# Altium schematic symbol library 687 1xx 145 22.SchLib: 22 symbols
Pins are listed as number, name and electrical type; pins without a type are passive.

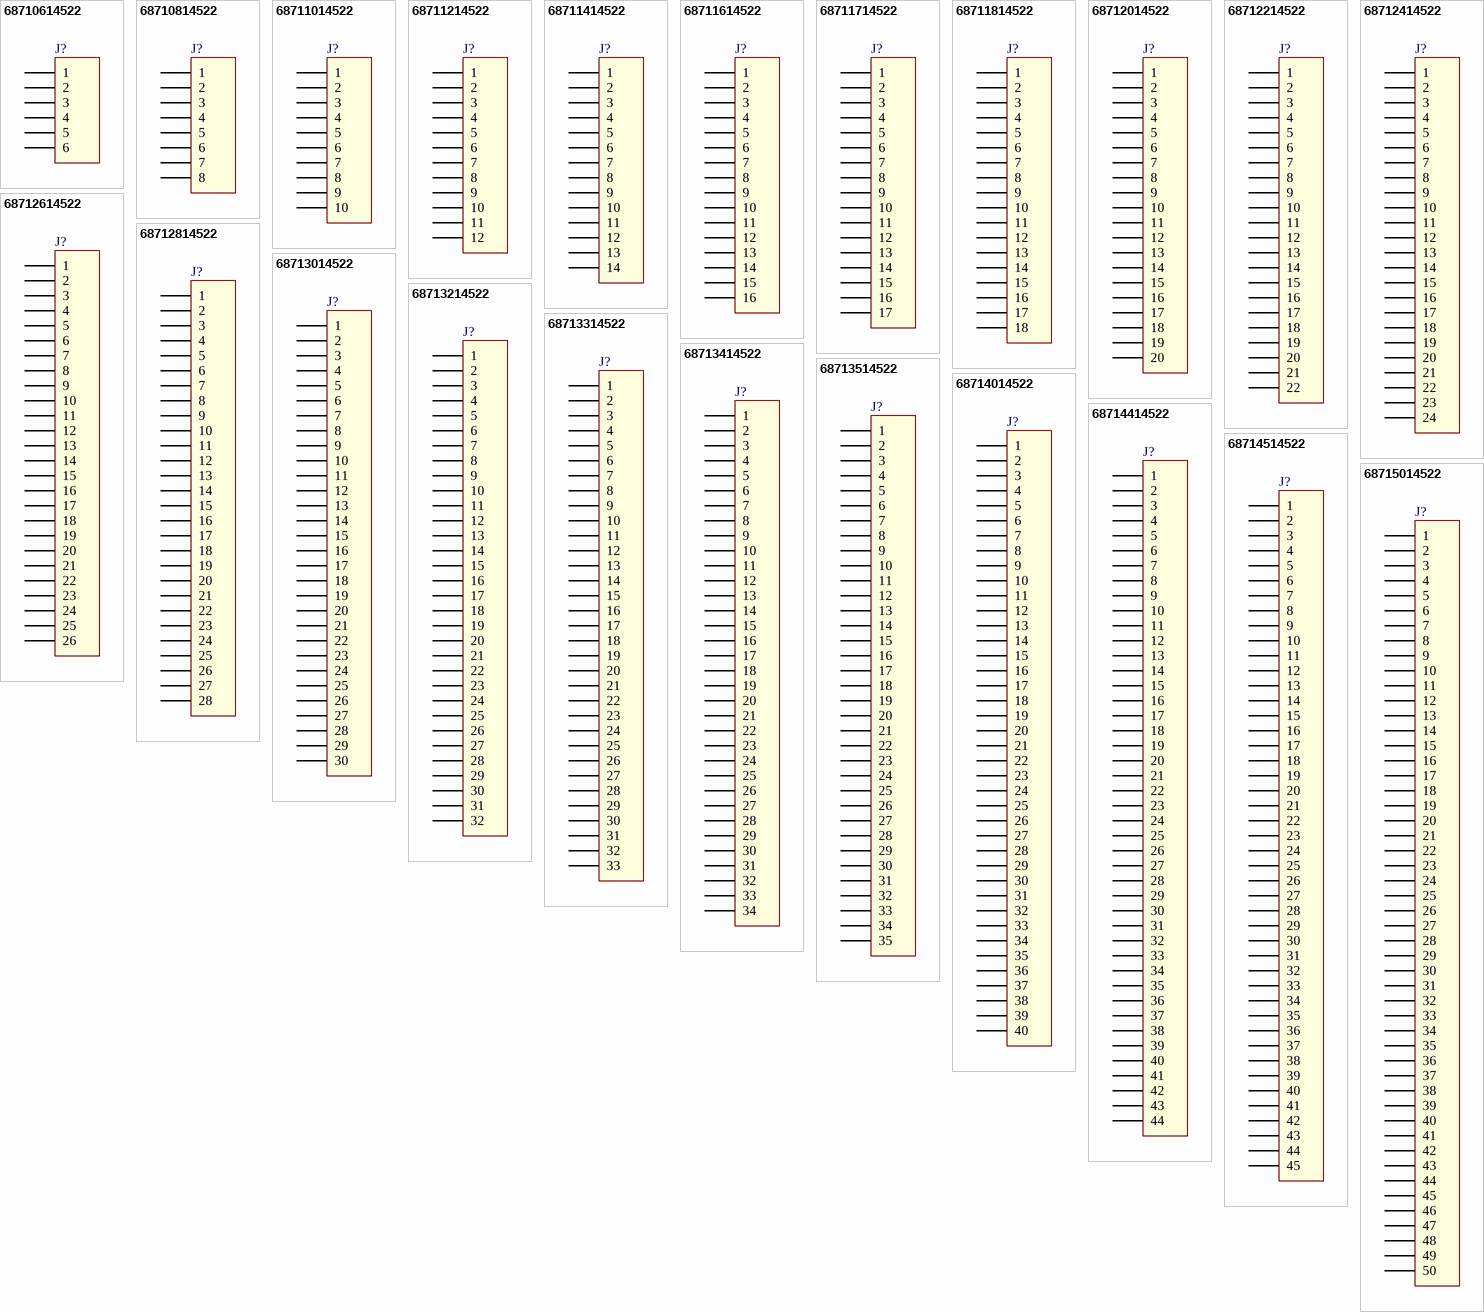
[diagram p0: symbols 68710614522 to 68715014522]

## 68710614522
designator J?
0.50 mm SMT ZIF Horizontal Bottom Contact WR-FPC, 6 pins; Part Number: 68710614522; Pitch: 0.5 mm; Pin Number: 6; ComponentLink1Description: Manufacturer; ComponentLink1URL: http://www.we-online.de; ComponentLink2Description: Datasheet; ComponentLink2URL: http://katalog.we-online.com/em/datasheet/6871xx14522.pdf; Published Date: April 2017; Publisher: Wurth Elektronik
footprint 68710614522 (0.50 mm SMT ZIF Horizontal Bottom Contact, 6p)
pins: 1, 2, 3, 4, 5, 6

## 68710814522
designator J?
0.50 mm SMT ZIF Horizontal Bottom Contact WR-FPC, 8 pins; Part Number: 68710814522; Pitch: 0.5 mm; Pin Number: 8; ComponentLink1Description: Manufacturer; ComponentLink1URL: http://www.we-online.de; ComponentLink2Description: Datasheet; ComponentLink2URL: http://katalog.we-online.com/em/datasheet/6871xx14522.pdf; Published Date: April 2017; Publisher: Wurth Elektronik
footprint 68710814522 (0.50 mm SMT ZIF Horizontal Bottom Contact, 8p)
pins: 1, 2, 3, 4, 5, 6, 7, 8

## 68711014522
designator J?
0.50 mm SMT ZIF Horizontal Bottom Contact WR-FPC, 10 pins; Part Number: 68711014522; Pitch: 0.5 mm; Pin Number: 10; ComponentLink1Description: Manufacturer; ComponentLink1URL: http://www.we-online.de; ComponentLink2Description: Datasheet; ComponentLink2URL: http://katalog.we-online.com/em/datasheet/6871xx14522.pdf; Published Date: April 2017; Publisher: Wurth Elektronik
footprint 68711014522 (0.50 mm SMT ZIF Horizontal Bottom Contact, 10p)
pins: 1, 2, 3, 4, 5, 6, 7, 8, 9, 10

## 68711214522
designator J?
0.50 mm SMT ZIF Horizontal Bottom Contact WR-FPC, 12 pins; Part Number: 68711214522; Pitch: 0.5 mm; Pin Number: 12; ComponentLink1Description: Manufacturer; ComponentLink1URL: http://www.we-online.de; ComponentLink2Description: Datasheet; ComponentLink2URL: http://katalog.we-online.com/em/datasheet/6871xx14522.pdf; Published Date: April 2017; Publisher: Wurth Elektronik
footprint 68711214522 (0.50 mm SMT ZIF Horizontal Bottom Contact, 12p)
pins: 1, 2, 3, 4, 5, 6, 7, 8, 9, 10, 11, 12

## 68711414522
designator J?
0.50 mm SMT ZIF Horizontal Bottom Contact WR-FPC, 14 pins; Part Number: 68711414522; Pitch: 0.5 mm; Pin Number: 14; ComponentLink1Description: Manufacturer; ComponentLink1URL: http://www.we-online.de; ComponentLink2Description: Datasheet; ComponentLink2URL: http://katalog.we-online.com/em/datasheet/6871xx14522.pdf; Published Date: April 2017; Publisher: Wurth Elektronik
footprint 68711414522 (0.50 mm SMT ZIF Horizontal Bottom Contact, 14p)
pins: 1, 2, 3, 4, 5, 6, 7, 8, 9, 10, 11, 12, 13, 14

## 68711614522
designator J?
0.50 mm SMT ZIF Horizontal Bottom Contact WR-FPC, 16 pins; Part Number: 68711614522; Pitch: 0.5 mm; Pin Number: 16; ComponentLink1Description: Manufacturer; ComponentLink1URL: http://www.we-online.de; ComponentLink2Description: Datasheet; ComponentLink2URL: http://katalog.we-online.com/em/datasheet/6871xx14522.pdf; Published Date: April 2017; Publisher: Wurth Elektronik
footprint 68711614522 (0.50 mm SMT ZIF Horizontal Bottom Contact, 16p)
pins: 1, 2, 3, 4, 5, 6, 7, 8, 9, 10, 11, 12, 13, 14, 15, 16

## 68711714522
designator J?
0.50 mm SMT ZIF Horizontal Bottom Contact WR-FPC, 17 pins; Part Number: 68711714522; Pitch: 0.5 mm; Pin Number: 17; ComponentLink1Description: Manufacturer; ComponentLink1URL: http://www.we-online.de; ComponentLink2Description: Datasheet; ComponentLink2URL: http://katalog.we-online.com/em/datasheet/6871xx14522.pdf; Published Date: April 2017; Publisher: Wurth Elektronik
footprint 68711714522 (0.50 mm SMT ZIF Horizontal Bottom Contact, 17p)
pins: 1, 2, 3, 4, 5, 6, 7, 8, 9, 10, 11, 12, 13, 14, 15, 16, 17

## 68711814522
designator J?
0.50 mm SMT ZIF Horizontal Bottom Contact WR-FPC, 18 pins; Part Number: 68711814522; Pitch: 0.5 mm; Pin Number: 18; ComponentLink1Description: Manufacturer; ComponentLink1URL: http://www.we-online.de; ComponentLink2Description: Datasheet; ComponentLink2URL: http://katalog.we-online.com/em/datasheet/6871xx14522.pdf; Published Date: April 2017; Publisher: Wurth Elektronik
footprint 68711814522 (0.50 mm SMT ZIF Horizontal Bottom Contact, 18p)
pins: 1, 2, 3, 4, 5, 6, 7, 8, 9, 10, 11, 12, 13, 14, 15, 16, 17, 18

## 68712014522
designator J?
0.50 mm SMT ZIF Horizontal Bottom Contact WR-FPC, 20 pins; Part Number: 68712014522; Pitch: 0.5 mm; Pin Number: 20; ComponentLink1Description: Manufacturer; ComponentLink1URL: http://www.we-online.de; ComponentLink2Description: Datasheet; ComponentLink2URL: http://katalog.we-online.com/em/datasheet/6871xx14522.pdf; Published Date: April 2017; Publisher: Wurth Elektronik
footprint 68712014522 (0.50 mm SMT ZIF Horizontal Bottom Contact, 20p)
pins: 1, 2, 3, 4, 5, 6, 7, 8, 9, 10, 11, 12, 13, 14, 15, 16, 17, 18, 19, 20

## 68712214522
designator J?
0.50 mm SMT ZIF Horizontal Bottom Contact WR-FPC, 22 pins; Part Number: 68712214522; Pitch: 0.5 mm; Pin Number: 22; ComponentLink1Description: Manufacturer; ComponentLink1URL: http://www.we-online.de; ComponentLink2Description: Datasheet; ComponentLink2URL: http://katalog.we-online.com/em/datasheet/6871xx14522.pdf; Published Date: April 2017; Publisher: Wurth Elektronik
footprint 68712214522 (0.50 mm SMT ZIF Horizontal Bottom Contact, 22p)
pins: 1, 2, 3, 4, 5, 6, 7, 8, 9, 10, 11, 12, 13, 14, 15, 16, 17, 18, 19, 20, 21, 22

## 68712414522
designator J?
0.50 mm SMT ZIF Horizontal Bottom Contact WR-FPC, 24 pins; Part Number: 68712414522; Pitch: 0.5 mm; Pin Number: 24; ComponentLink1Description: Manufacturer; ComponentLink1URL: http://www.we-online.de; ComponentLink2Description: Datasheet; ComponentLink2URL: http://katalog.we-online.com/em/datasheet/6871xx14522.pdf; Published Date: April 2017; Publisher: Wurth Elektronik
footprint 68712414522 (0.50 mm SMT ZIF Horizontal Bottom Contact, 24p)
pins: 1, 2, 3, 4, 5, 6, 7, 8, 9, 10, 11, 12, 13, 14, 15, 16, 17, 18, 19, 20, 21, 22, 23, 24

## 68712614522
designator J?
0.50 mm SMT ZIF Horizontal Bottom Contact WR-FPC, 26 pins; Part Number: 68712614522; Pitch: 0.5 mm; Pin Number: 26; ComponentLink1Description: Manufacturer; ComponentLink1URL: http://www.we-online.de; ComponentLink2Description: Datasheet; ComponentLink2URL: http://katalog.we-online.com/em/datasheet/6871xx14522.pdf; Published Date: April 2017; Publisher: Wurth Elektronik
footprint 68712614522 (0.50 mm SMT ZIF Horizontal Bottom Contact, 26p)
pins: 1, 2, 3, 4, 5, 6, 7, 8, 9, 10, 11, 12, 13, 14, 15, 16, 17, 18, 19, 20, 21, 22, 23, 24, 25, 26

## 68712814522
designator J?
0.50 mm SMT ZIF Horizontal Bottom Contact WR-FPC, 28 pins; Part Number: 68712814522; Pitch: 0.5 mm; Pin Number: 28; ComponentLink1Description: Manufacturer; ComponentLink1URL: http://www.we-online.de; ComponentLink2Description: Datasheet; ComponentLink2URL: http://katalog.we-online.com/em/datasheet/6871xx14522.pdf; Published Date: April 2017; Publisher: Wurth Elektronik
footprint 68712814522 (0.50 mm SMT ZIF Horizontal Bottom Contact, 28p)
pins: 1, 2, 3, 4, 5, 6, 7, 8, 9, 10, 11, 12, 13, 14, 15, 16, 17, 18, 19, 20, 21, 22, 23, 24, 25, 26, 27, 28

## 68713014522
designator J?
0.50 mm SMT ZIF Horizontal Bottom Contact WR-FPC, 30 pins; Part Number: 68713014522; Pitch: 0.5 mm; Pin Number: 30; ComponentLink1Description: Manufacturer; ComponentLink1URL: http://www.we-online.de; ComponentLink2Description: Datasheet; ComponentLink2URL: http://katalog.we-online.com/em/datasheet/6871xx14522.pdf; Published Date: April 2017; Publisher: Wurth Elektronik
footprint 68713014522 (0.50 mm SMT ZIF Horizontal Bottom Contact, 30p)
pins: 1, 2, 3, 4, 5, 6, 7, 8, 9, 10, 11, 12, 13, 14, 15, 16, 17, 18, 19, 20, 21, 22, 23, 24, 25, 26, 27, 28, 29, 30

## 68713214522
designator J?
0.50 mm SMT ZIF Horizontal Bottom Contact WR-FPC, 32 pins; Part Number: 68713214522; Pitch: 0.5 mm; Pin Number: 32; ComponentLink1Description: Manufacturer; ComponentLink1URL: http://www.we-online.de; ComponentLink2Description: Datasheet; ComponentLink2URL: http://katalog.we-online.com/em/datasheet/6871xx14522.pdf; Published Date: April 2017; Publisher: Wurth Elektronik
footprint 68713214522 (0.50 mm SMT ZIF Horizontal Bottom Contact, 32p)
pins: 1, 2, 3, 4, 5, 6, 7, 8, 9, 10, 11, 12, 13, 14, 15, 16, 17, 18, 19, 20, 21, 22, 23, 24, 25, 26, 27, 28, 29, 30, 31, 32

## 68713314522
designator J?
0.50 mm SMT ZIF Horizontal Bottom Contact WR-FPC, 33 pins; Part Number: 68713314522; Pitch: 0.5 mm; Pin Number: 33; ComponentLink1Description: Manufacturer; ComponentLink1URL: http://www.we-online.de; ComponentLink2Description: Datasheet; ComponentLink2URL: http://katalog.we-online.com/em/datasheet/6871xx14522.pdf; Published Date: April 2017; Publisher: Wurth Elektronik
footprint 68713314522 (0.50 mm SMT ZIF Horizontal Bottom Contact, 33p)
pins: 1, 2, 3, 4, 5, 6, 7, 8, 9, 10, 11, 12, 13, 14, 15, 16, 17, 18, 19, 20, 21, 22, 23, 24, 25, 26, 27, 28, 29, 30, 31, 32, 33

## 68713414522
designator J?
0.50 mm SMT ZIF Horizontal Bottom Contact WR-FPC, 34 pins; Part Number: 68713414522; Pitch: 0.5 mm; Pin Number: 34; ComponentLink1Description: Manufacturer; ComponentLink1URL: http://www.we-online.de; ComponentLink2Description: Datasheet; ComponentLink2URL: http://katalog.we-online.com/em/datasheet/6871xx14522.pdf; Published Date: April 2017; Publisher: Wurth Elektronik
footprint 68713414522 (0.50 mm SMT ZIF Horizontal Bottom Contact, 34p)
pins: 1, 2, 3, 4, 5, 6, 7, 8, 9, 10, 11, 12, 13, 14, 15, 16, 17, 18, 19, 20, 21, 22, 23, 24, 25, 26, 27, 28, 29, 30, 31, 32, 33, 34

## 68713514522
designator J?
0.50 mm SMT ZIF Horizontal Bottom Contact WR-FPC, 35 pins; Part Number: 68713514522; Pitch: 0.5 mm; Pin Number: 35; ComponentLink1Description: Manufacturer; ComponentLink1URL: http://www.we-online.de; ComponentLink2Description: Datasheet; ComponentLink2URL: http://katalog.we-online.com/em/datasheet/6871xx14522.pdf; Published Date: April 2017; Publisher: Wurth Elektronik
footprint 68713514522 (0.50 mm SMT ZIF Horizontal Bottom Contact, 35p)
pins: 1, 2, 3, 4, 5, 6, 7, 8, 9, 10, 11, 12, 13, 14, 15, 16, 17, 18, 19, 20, 21, 22, 23, 24, 25, 26, 27, 28, 29, 30, 31, 32, 33, 34, 35

## 68714014522
designator J?
0.50 mm SMT ZIF Horizontal Bottom Contact WR-FPC, 40 pins; Part Number: 68714014522; Pitch: 0.5 mm; Pin Number: 40; ComponentLink1Description: Manufacturer; ComponentLink1URL: http://www.we-online.de; ComponentLink2Description: Datasheet; ComponentLink2URL: http://katalog.we-online.com/em/datasheet/6871xx14522.pdf; Published Date: April 2017; Publisher: Wurth Elektronik
footprint 68714014522 (0.50 mm SMT ZIF Horizontal Bottom Contact, 40p)
pins: 1, 2, 3, 4, 5, 6, 7, 8, 9, 10, 11, 12, 13, 14, 15, 16, 17, 18, 19, 20, 21, 22, 23, 24, 25, 26, 27, 28, 29, 30, 31, 32, 33, 34, 35, 36, 37, 38, 39, 40

## 68714414522
designator J?
0.50 mm SMT ZIF Horizontal Bottom Contact WR-FPC, 44 pins; Part Number: 68714414522; Pitch: 0.5 mm; Pin Number: 44; ComponentLink1Description: Manufacturer; ComponentLink1URL: http://www.we-online.de; ComponentLink2Description: Datasheet; ComponentLink2URL: http://katalog.we-online.com/em/datasheet/6871xx14522.pdf; Published Date: April 2017; Publisher: Wurth Elektronik
footprint 68714414522 (0.50 mm SMT ZIF Horizontal Bottom Contact, 44p)
pins: 1, 2, 3, 4, 5, 6, 7, 8, 9, 10, 11, 12, 13, 14, 15, 16, 17, 18, 19, 20, 21, 22, 23, 24, 25, 26, 27, 28, 29, 30, 31, 32, 33, 34, 35, 36, 37, 38, 39, 40, 41, 42, 43, 44

## 68714514522
designator J?
0.50 mm SMT ZIF Horizontal Bottom Contact WR-FPC, 45 pins; Part Number: 68714514522; Pitch: 0.5 mm; Pin Number: 45; ComponentLink1Description: Manufacturer; ComponentLink1URL: http://www.we-online.de; ComponentLink2Description: Datasheet; ComponentLink2URL: http://katalog.we-online.com/em/datasheet/6871xx14522.pdf; Published Date: April 2017; Publisher: Wurth Elektronik
footprint 68714514522 (0.50 mm SMT ZIF Horizontal Bottom Contact, 45p)
pins: 1, 2, 3, 4, 5, 6, 7, 8, 9, 10, 11, 12, 13, 14, 15, 16, 17, 18, 19, 20, 21, 22, 23, 24, 25, 26, 27, 28, 29, 30, 31, 32, 33, 34, 35, 36, 37, 38, 39, 40, 41, 42, 43, 44, 45

## 68715014522
designator J?
0.50 mm SMT ZIF Horizontal Bottom Contact WR-FPC, 50 pins; Part Number: 68715014522; Pitch: 0.5 mm; Pin Number: 50; ComponentLink1Description: Manufacturer; ComponentLink1URL: http://www.we-online.de; ComponentLink2Description: Datasheet; ComponentLink2URL: http://katalog.we-online.com/em/datasheet/6871xx14522.pdf; Published Date: April 2017; Publisher: Wurth Elektronik
footprint 68715014522 (0.50 mm SMT ZIF Horizontal Bottom Contact, 50p)
pins: 1, 2, 3, 4, 5, 6, 7, 8, 9, 10, 11, 12, 13, 14, 15, 16, 17, 18, 19, 20, 21, 22, 23, 24, 25, 26, 27, 28, 29, 30, 31, 32, 33, 34, 35, 36, 37, 38, 39, 40, 41, 42, 43, 44, 45, 46, 47, 48, 49, 50